# Altium footprint library TPS40057.PcbLib: 22 footprints (part 1 of 2)
Each footprint in its own frame and in the unit in brackets; x right, y up, seen from the top. Pads: shape width x height; smd on the part's side, far side on the other; paste and mask are expansions set on the pad; w line width, h text height; cw(c..) or ccw(c..) is an arc to the next point about the centre after c.
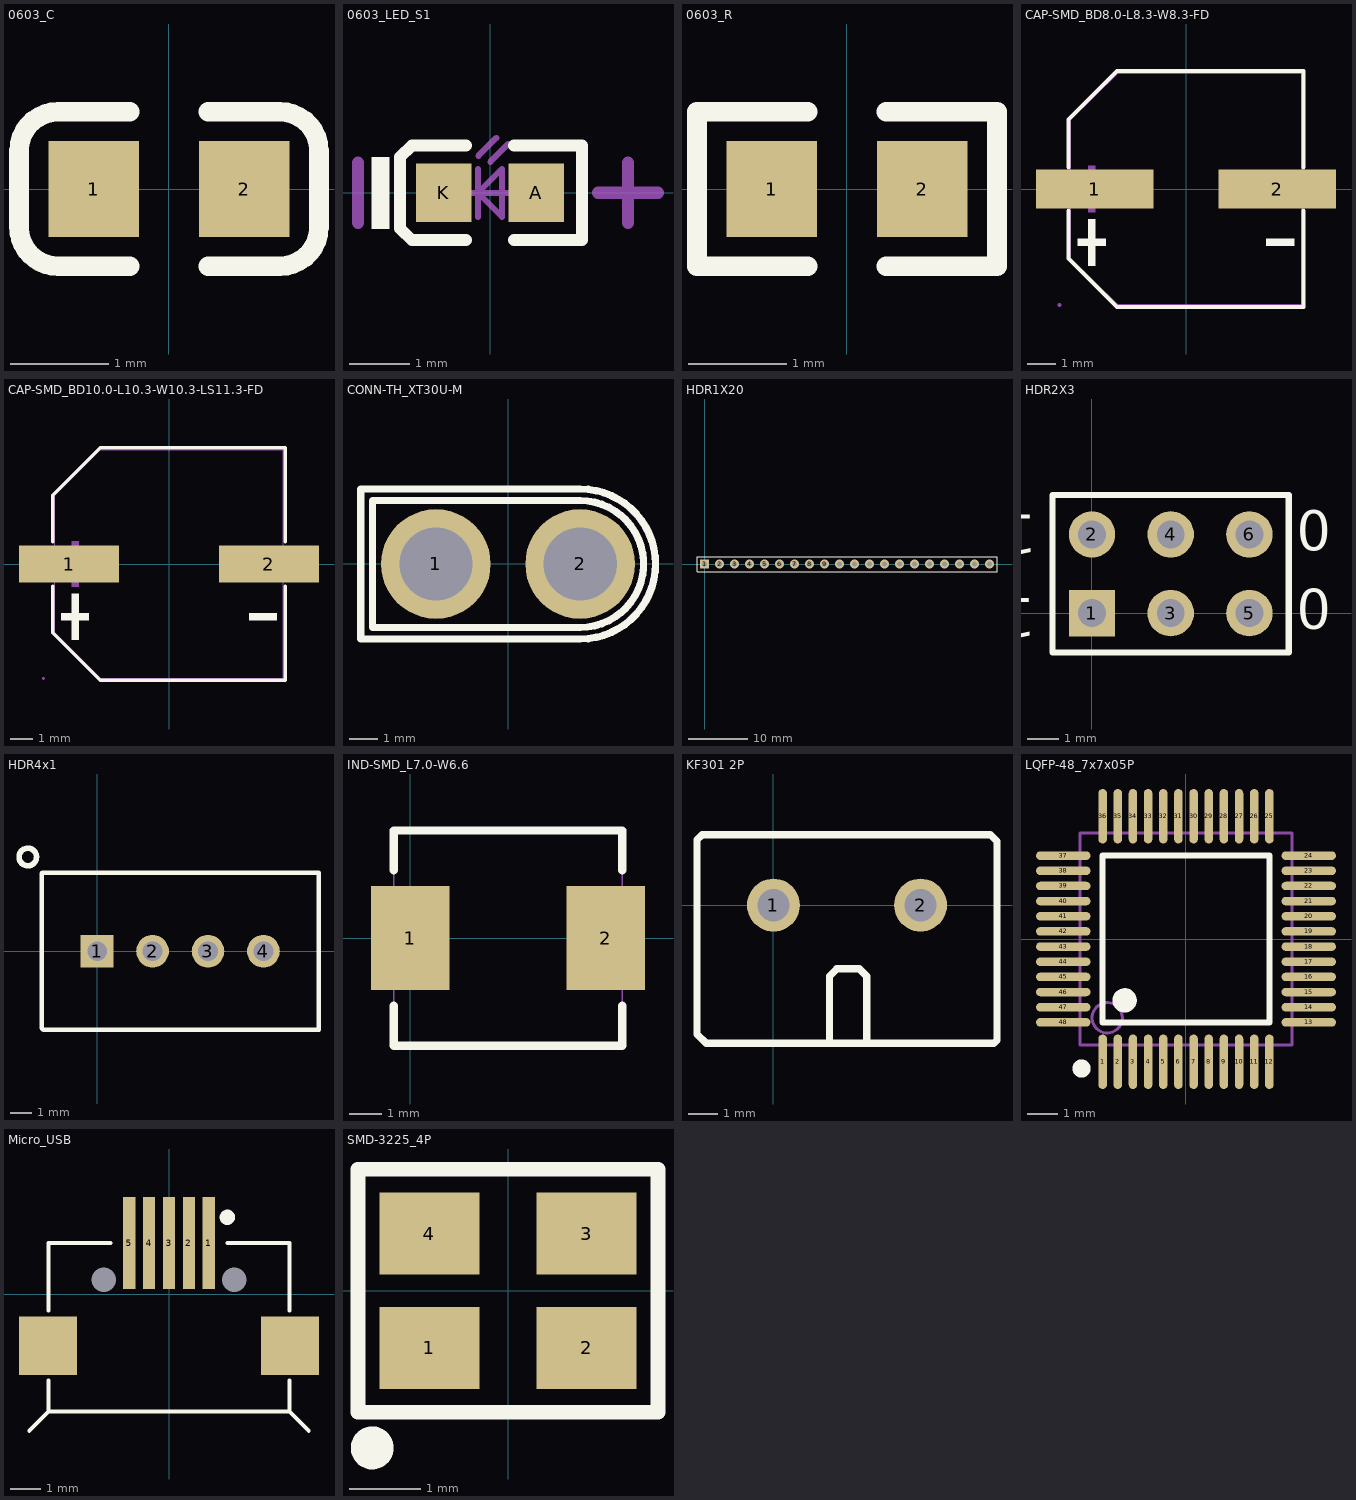
[diagram p0: the footprints below, top view; thin cyan lines are the x and y axes]

## 0603_C [mm]
pads (2):
  rect 0.93x0.98 smd: 1(-0.77,0) 2(0.77,0)
Top Overlay:
  lines w0.2: -0.4,-0.79 -1.135,-0.79 cw(c-1.135,-0.39) -1.535,-0.39 -1.535,0.39 cw(c-1.135,0.39) -1.135,0.79 -0.4,0.79 ; 0.4,-0.79 1.135,-0.79 ccw(c1.135,-0.39) 1.535,-0.39 1.535,0.39 ccw(c1.135,0.39) 1.135,0.79 0.4,0.79
3D body "User Library-0603 SMD Capacitor.STEP": height 0.3, standoff 0, extent -0.8,-0.4 0.8,0.4

## 0603_LED_S1 [mm]
pads (2):
  rect 0.93x0.98 smd: A(0.77,0) K(-0.77,0)
Top Overlay:
  rectangle: -1.975,-0.6 -1.675,0.6
  lines w0.2: -0.4,-0.79 -1.3,-0.79 -1.5,-0.597 -1.5,0.597 -1.3,0.79 -0.4,0.79 ; 0.4,-0.79 1.535,-0.79 1.535,0.79 0.4,0.79
Mechanical 13:
  lines w0.1: -0.4,0 0.4,0 ; -0.2,-0.4 -0.2,0.4 ; -0.195,0.617 0.105,0.917 ; 0.005,0.517 0.305,0.817 ; -0.2,0 0.2,0.4 0.2,-0.4 -0.2,0
Mechanical 15:
  lines w0.203: -2.2,-0.5 -2.2,0.5 ; 1.8,0 2.8,0 ; 2.3,-0.5 2.3,0.5
3D body "User Library-LED_0603_R.STEP": height 0.6, standoff 0, extent -0.8,-0.4 0.8,0.4

## 0603_R [mm]
pads (2):
  rect 0.93x0.98 smd: 1(-0.77,0) 2(0.77,0)
Top Overlay:
  lines w0.2: -0.4,-0.79 -1.535,-0.79 -1.535,0.79 -0.4,0.79 ; 0.4,-0.79 1.535,-0.79 1.535,0.79 0.4,0.79
3D body "User Library-RES_1609-0603.STEP": height 0.56, standoff 0, extent -0.85,-0.4 0.85,0.4

## CAP-SMD_BD8.0-L8.3-W8.3-FD [mm]
pads (2):
  rect 4.2x1.4 smd: 1(-3.267,0) 2(3.267,0)
Top Overlay:
  region: 3.876,-1.785 3.876,-2.033 2.88,-2.033 2.88,-1.785
  region: -3.876,-1.785 -3.876,-2.033 -2.88,-2.033 -2.88,-1.785
  region: -3.503,-1.079 -3.503,-2.739 -3.254,-2.739 -3.254,-1.079
  lines w0.152: -4.201,-0.782 -4.201,-2.49 -2.465,-4.226 4.201,-4.226 4.201,-0.782 ; -4.201,0.782 -4.201,2.49 -2.465,4.226 4.201,4.226 4.201,0.782
Mechanical 6:
  region: 3.876,0.125 3.876,-0.125 2.88,-0.125 2.88,0.125
  region: -3.876,0.125 -3.876,-0.125 -2.88,-0.125 -2.88,0.125
  region: -3.503,0.83 -3.503,-0.83 -3.254,-0.83 -3.254,0.83
Mechanical 15:
  region: -4.465,-4.15 -4.465,-4.125 -4.5,-4.09 -4.549,-4.09 -4.584,-4.125 -4.584,-4.15 -4.584,-4.175 -4.549,-4.21 -4.5,-4.21 -4.465,-4.175 -4.465,-4.15
  region: 1.574,0.45 4.524,0.45 4.524,-0.45 1.574,-0.45
  region: -4.524,0.45 -1.574,0.45 -1.574,-0.45 -4.524,-0.45
  lines w0.051: -4.15,-2.49 -2.465,-4.15 4.15,-4.15 4.15,4.15 -2.465,4.15 -4.15,2.49 -4.15,-2.49

## CAP-SMD_BD10.0-L10.3-W10.3-LS11.3-FD [mm]
pads (2):
  rect 4.5x1.65 smd: 1(-4.5,0) 2(4.5,0)
Top Overlay:
  region: -4.378,-1.339 -4.378,-3.399 -4.068,-3.399 -4.068,-1.339
  region: -4.841,-2.214 -4.841,-2.523 -3.605,-2.523 -3.605,-2.214
  region: 4.841,-2.214 4.841,-2.523 3.605,-2.523 3.605,-2.214
  lines w0.152: -5.226,-1.005 -5.226,-3.09 -3.09,-5.226 5.226,-5.226 5.226,-1.005 ; -5.226,1.005 -5.226,3.09 -3.09,5.226 5.226,5.226 5.226,1.005
Mechanical 6:
  region: -4.378,1.03 -4.378,-1.03 -4.068,-1.03 -4.068,1.03
  region: -4.841,0.155 -4.841,-0.155 -3.605,-0.155 -3.605,0.155
  region: 4.841,0.155 4.841,-0.155 3.605,-0.155 3.605,0.155
Mechanical 15:
  region: -5.59,-5.15 -5.59,-5.125 -5.625,-5.09 -5.675,-5.09 -5.71,-5.125 -5.71,-5.15 -5.71,-5.175 -5.675,-5.21 -5.625,-5.21 -5.59,-5.175 -5.59,-5.15
  region: 2.3,0.475 5.65,0.475 5.65,-0.475 2.3,-0.475
  region: -5.65,0.475 -2.3,0.475 -2.3,-0.475 -5.65,-0.475
  lines w0.051: -5.15,-3.09 -3.09,-5.15 5.15,-5.15 5.15,5.15 -3.09,5.15 -5.15,3.09 -5.15,-3.09

## CONN-TH_XT30U-M [mm]
pads (2):
  round 3.8 hole 2.54 paste+0 mask+0.05: 1(-2.5,0) 2(2.5,0)
Top Overlay:
  lines w0.254: 2.5,2.2 cw(c2.5,0) 2.501,-2.2 ; 2.5,2.2 2,2.2 -4.7,2.2 -4.7,-2.2 2,-2.2 2.501,-2.2 ; 2.5,2.2 2.5,2.2 ; 2.501,-2.2 2.501,-2.2 ; -5.1,-2.6 -5.1,2.6 2.514,2.6 cw(c2.514,0) 2.514,-2.6 -5.1,-2.6
Mechanical 6:
  region: 5,0 4.988,0.245 4.892,0.726 4.705,1.178 4.432,1.586 4.086,1.933 3.678,2.205 3.226,2.392 2.745,2.488 2.5,2.5 2.5,2.7 2.677,2.7 3.028,2.654 3.37,2.562 3.697,2.427 4.003,2.25 4.284,2.034 4.534,1.784 4.75,1.503 4.927,1.197 5.062,0.87 5.154,0.528 5.2,0.177 5.2,0
  region: 2.5,-2.5 2.745,-2.488 3.226,-2.392 3.678,-2.205 4.086,-1.933 4.432,-1.586 4.705,-1.178 4.892,-0.726 4.988,-0.245 5,0 5.2,0 5.2,-0.177 5.154,-0.528 5.062,-0.87 4.927,-1.197 4.75,-1.503 4.534,-1.784 4.284,-2.034 4.003,-2.25 3.697,-2.427 3.37,-2.562 3.028,-2.654 2.677,-2.7 2.5,-2.7
  region: 2.5,2.7 -5.1,2.7 -5.2,2.6 -5.2,-2.6 -5.1,-2.7 2.5,-2.7 2.5,-2.5 -5,-2.5 -5,2.5 2.5,2.5
Mechanical 15:
  region: -5.04,-2.6 -5.04,-2.575 -5.075,-2.54 -5.125,-2.54 -5.16,-2.575 -5.16,-2.6 -5.16,-2.625 -5.125,-2.66 -5.075,-2.66 -5.04,-2.625 -5.04,-2.6
  region: 3.5,0 3.5,0.132 3.432,0.386 3.3,0.614 3.114,0.8 2.886,0.932 2.632,1 2.368,1 2.114,0.932 1.886,0.8 1.7,0.614 1.568,0.386 1.5,0.132 1.5,0 1.5,-0.132 1.568,-0.386 1.7,-0.614 1.886,-0.8 2.114,-0.932 2.368,-1 2.632,-1 2.886,-0.932 3.114,-0.8 3.3,-0.614 3.432,-0.386 3.5,-0.132 3.5,0
  region: -1.5,0 -1.5,0.132 -1.568,0.386 -1.7,0.614 -1.886,0.8 -2.114,0.932 -2.368,1 -2.632,1 -2.886,0.932 -3.114,0.8 -3.3,0.614 -3.432,0.386 -3.5,0.132 -3.5,0 -3.5,-0.132 -3.432,-0.386 -3.3,-0.614 -3.114,-0.8 -2.886,-0.932 -2.632,-1 -2.368,-1 -2.114,-0.932 -1.886,-0.8 -1.7,-0.614 -1.568,-0.386 -1.5,-0.132 -1.5,0
  lines w0.051: -5.1,-2.6 -5.1,2.52 cw(c-5.08,2.52) -5.08,2.54 2.514,2.6 cw(c2.514,0) 5.114,0 cw(c2.514,0) 2.514,-2.6 -5.1,-2.6

## HDR1X20 [mm] "Connector; Header; 20 Position"
height 4.32
pads (20):
  rect 1.5x1.5 hole 0.9: 1(0,0)
  round 1.5 hole 0.9: 2(2.54,0) 3(5.08,0) 4(7.62,0) 5(10.16,0) 6(12.7,0) 7(15.24,0) 8(17.78,0) 9(20.32,0) 10(22.86,0) 11(25.4,0) 12(27.94,0) 13(30.48,0) 14(33.02,0) 15(35.56,0) 16(38.1,0) 17(40.64,0) 18(43.18,0) 19(45.72,0) 20(48.26,0)
Top Overlay:
  lines w0.2: -1.27,-1.27 49.53,-1.27 49.53,1.27 0.635,1.27 -1.27,1.27 -1.27,-1.27
3D body "24pin.stp": height 2.85, standoff -2.75, extent 12.983,-1 29.083,1

## HDR2X3 [mm] "Connector; Header; 3x2 Position"
height 4.32
pads (6):
  rect 1.5x1.5 hole 0.9: 1(0,0)
  round 1.5 hole 0.9: 2(0,2.54) 3(2.54,0) 4(2.54,2.54) 5(5.08,0) 6(5.08,2.54)
Top Overlay:
  lines w0.2: 1.482,-1.27 6.35,-1.27 ; 6.35,-1.27 -1.27,-1.27 -1.27,3.81 6.35,3.81 6.35,-1.27
  text "1" at -1.807,0.486 h1.27
  text "1" at -1.778,3.175 h1.27
  text "0" at 6.604,-0.508 h1.27
  text "0" at 6.604,2.032 h1.27

## HDR4x1 [mm] "4X1排针"
pads (4):
  rect 1.5x1.5 hole 0.9: 1(0,0)
  round 1.5 hole 0.9: 2(2.54,0) 3(5.08,0) 4(7.62,0)
Top Overlay:
  circle w0.254: c-3.175,4.318 r0.402
  lines w0.2: 10.147,3.6 -2.509,3.6 -2.54,3.569 -2.54,-3.53 -2.47,-3.6 10.165,-3.6 ; 10.16,-3.531 10.16,3.585

## IND-SMD_L7.0-W6.6 [mm]
pads (2):
  rect 2.4x3.2 smd: 1(0,0) 2(6,0)
Top Overlay:
  lines w0.254: -0.5,-2.081 -0.5,-3.3 -0.49,-3.3 6.5,-3.3 6.5,-2.081 ; -0.5,2.081 -0.5,3.3 6.48,3.3 6.5,3.28 ; 6.5,2.081 6.5,3.3
Mechanical 15:
  region: -0.44,-3.3 -0.44,-3.275 -0.475,-3.24 -0.525,-3.24 -0.56,-3.275 -0.56,-3.3 -0.56,-3.325 -0.525,-3.36 -0.475,-3.36 -0.44,-3.325
  region: 4.9,1.5 6.5,1.5 6.5,-1.5 4.9,-1.5
  region: 1.1,-1.5 -0.5,-1.5 -0.5,1.5 1.1,1.5
  lines w0.051: -0.5,-3.3 -0.5,3.3 6.5,3.3 6.5,-3.3 -0.5,-3.3

## KF301 2P [mm]
pads (2):
  round 1.8 hole 1.1 paste+0 mask+0.051: 1(0,0) 2(5,0)
Top Overlay:
  lines w0.254: 0,2.4 5,2.4 ; 1.905,-4.699 1.905,-2.413 2.159,-2.159 2.921,-2.159 3.175,-2.413 3.175,-4.699 ; 5,2.4 7.379,2.4 7.6,2.179 7.6,0 7.6,-2.239 7.6,-4.592 7.492,-4.7 5,-4.7 0,-4.7 -2.285,-4.7 -2.6,-4.385 -2.6,-2.239 -2.6,0 -2.6,2.226 -2.426,2.4 5,2.4

## LQFP-48_7x7x05P [mm]
pads (48):
  oval 0.28x1.8 smd mask+0.051: 1(-2.75,-4.05) 2(-2.25,-4.05) 3(-1.75,-4.05) 4(-1.25,-4.05) 5(-0.75,-4.05) 6(-0.25,-4.05) 7(0.25,-4.05) 8(0.75,-4.05) 9(1.25,-4.05) 10(1.75,-4.05) 11(2.25,-4.05) 12(2.75,-4.05) 25(2.75,4.05) 26(2.25,4.05) 27(1.75,4.05) 28(1.25,4.05) 29(0.75,4.05) 30(0.25,4.05) 31(-0.25,4.05) 32(-0.75,4.05) 33(-1.25,4.05) 34(-1.75,4.05) 35(-2.25,4.05) 36(-2.75,4.05)
  oval 1.8x0.28 smd mask+0.051: 13(4.05,-2.75) 14(4.05,-2.25) 15(4.05,-1.75) 16(4.05,-1.25) 17(4.05,-0.75) 18(4.05,-0.25) 19(4.05,0.25) 20(4.05,0.75) 21(4.05,1.25) 22(4.05,1.75) 23(4.05,2.25) 24(4.05,2.75) 37(-4.05,2.75) 38(-4.05,2.25) 39(-4.05,1.75) 40(-4.05,1.25) 41(-4.05,0.75) 42(-4.05,0.25) 43(-4.05,-0.25) 44(-4.05,-0.75) 45(-4.05,-1.25) 46(-4.05,-1.75) 47(-4.05,-2.25) 48(-4.05,-2.75)
Top Overlay:
  circle w0.4: c-2.025,-2.025 r0.2
  circle w0.3: c-3.45,-4.275 r0.15
  lines w0.2: -2.75,-2.75 -2.75,2.75 2.75,2.75 2.75,-2.75 -2.75,-2.75
Mechanical 13:
  circle w0.1: c-2.6,-2.6 r0.5
  lines w0.1: -3.5,-3.5 -3.5,3.5 3.5,3.5 3.5,-3.5 -3.5,-3.5
3D body "QFP48P50_900X900X160L60X19.STEP": height 1.6, standoff 0, extent -4.5,-4.5 4.5,4.5

## Micro_USB [mm]
height 4.32
pads (9):
  rect 0.4x3 smd: 1(1.3,1.679) 2(0.65,1.679) 3(0,1.679) 4(-0.65,1.679) 5(-1.3,1.679)
  round 0 hole 0.8 unplated: MH1(2.127,0.471) MH2(-2.127,0.471)
  rect 1.9x1.9 smd: ""(-3.95,-1.679) ""(3.95,-1.679)
Top Overlay:
  circle w0.25: c1.905,2.519 r0.125
  lines w0.127: -4.567,-4.459 -3.937,-3.829 -3.937,-2.813 ; -3.937,-0.527 -3.937,1.679 ; -3.9,-3.829 3.9,-3.829 ; -3.9,1.679 -1.905,1.679 ; 1.905,1.679 3.9,1.679 ; 3.937,-2.813 3.937,-3.829 4.567,-4.459 ; 3.937,-0.527 3.937,1.679
3D body "MICRO-USB.stp": height 5.58, standoff -0.19, extent -3.975,-1.853 3.975,1.544

## PCBComponent_1 [mm]

## PCBComponent_1 - duplicate [mm]

## SMD-3225_4P [mm]
pads (4):
  rect 1.4x1.15 smd: 1(-1.1,-0.8) 2(1.1,-0.8) 3(1.1,0.8) 4(-1.1,0.8)
Top Overlay:
  circle w0.3: c-1.9,-2.2 r0.15
  lines w0.203: -2.1,-1.7 2.1,-1.7 2.1,1.7 -2.1,1.7 -2.1,-1.7
3D body "User Library-3225-1.STEP": height 0.61, standoff 0, extent -1.6,-1.25 1.6,1.25